# Altium schematic symbol library inductores.SchLib: 2 symbols
Pins are listed as number, name and electrical type; pins without a type are passive.

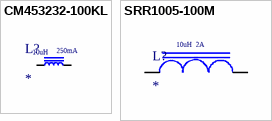
[diagram p0: symbols CM453232-100KL to SRR1005-100M]

## CM453232-100KL
designator L?  Current Rating: 250mA  Inductance: 10uH
Ind General Purpose Chip Wirewound 10uH 10% 2.52MHz 50Q-Factor Ferrite 250mA 1812 T/R; Manufacturer 1: Bourns; Manufacturer Part Number 1: CM453232-100KL; DC Resistance (DCR): 1.6R; Q Factor: 50; Self Resonant Frequency: 20MHz; Shielding: Unshielded; Current: 160mA; Supplier 1: Digi-Key; Stock 1: 1374; Pricing 1: 1=0,43000, 10=0,38100, 25=0,33320, 50=0,28540, 100=0,26170, 250=0,23788 (USD); RoHS: Yes; Mount: Surface Mount; Case/Package: 1812; Number of Pins: 2; Core Material: Ferrite; Case Code (Metric): 4532; Case Code (Imperial): 1812; Contact Plating: Tin; Min Operating Temperature: -40°C; Max Operating Temperature: 100°C; Tolerance: 10%; Max DC Current: 250mA; Packaging: Tape and Reel; Inductance Tolerance: 10%; Package Quantity: 500; Resistor Type: Wirewound; Test Frequency: 2.52MHz; Termination: SMD/SMT; DC Current: 250mA; Series Resistance: 1.6R; Series: CM453232; Length: 4.8mm; Width: 0.126inch; Height: 3mm; Height - Seated (Max): 0.134inch; Depth: 3.4mm; Radiation Hardening: No; REACH SVHC: No SVHC; Military Standard: Not; RoHS Compliant: Yes; ComponentLink1URL: https://datasheet.ciiva.com/27049/774461-27049974.pdf?src-supplier=Jameco; ComponentLink1Description: https://datasheet.ciiva.com/27049/774461-27049974.pdf?src-supplier=Jameco; ComponentLink2URL: https://datasheet.ciiva.com/11799/0900766b81218b74-11799714.pdf?src-supplier=RSComponents; ComponentLink2Description: https://datasheet.ciiva.com/11799/0900766b81218b74-11799714.pdf?src-supplier=RSComponents; ComponentLink3URL: https://datasheet.ciiva.com/29348/447189-da-01-en-induktivitaet-cm453232-100kl-10uh-250ma-29348045.pdf?src-supplier=Conrad; ComponentLink3Description: https://datasheet.ciiva.com/29348/447189-da-01-en-induktivitaet-cm453232-100kl-10uh-250ma-29348045.pdf?src-supplier=Conrad; ComponentLink4URL: https://datasheet.ciiva.com/3081/cm-3081727.pdf?src-supplier=Avnet; ComponentLink4Description: https://datasheet.ciiva.com/3081/cm-3081727.pdf?src-supplier=Avnet; ComponentLink5URL: https://datasheet.ciiva.com/6689/cm-6689143.pdf?src-supplier=Digi-Key; ComponentLink5Description: https://datasheet.ciiva.com/6689/cm-6689143.pdf?src-supplier=Digi-Key; ComponentLink6URL: https://datasheet.ciiva.com/6689/cm-6689144.pdf?src-supplier=Digi-Key; ComponentLink6Description: https://datasheet.ciiva.com/6689/cm-6689144.pdf?src-supplier=Digi-Key; ComponentLink7URL: https://datasheet.ciiva.com/6689/cm-6689145.pdf?src-supplier=Digi-Key; ComponentLink7Description: https://datasheet.ciiva.com/6689/cm-6689145.pdf?src-supplier=Digi-Key; ComponentLink8URL: https://datasheet.ciiva.com/4978/cm-4978555.pdf?src-supplier=Mouser; ComponentLink8Description: https://datasheet.ciiva.com/4978/cm-4978555.pdf?src-supplier=Mouser; ComponentLink9URL: https://datasheet.ciiva.com/25903/cm-25903528.pdf?src-supplier=Avnet+Europe; ComponentLink9Description: https://datasheet.ciiva.com/25903/cm-25903528.pdf?src-supplier=Avnet+Europe; ComponentLink10URL: https://datasheet.ciiva.com/14124/wfcm-dat-e-14124666.pdf?src-supplier=Distrelec; ComponentLink10Description: https://datasheet.ciiva.com/14124/wfcm-dat-e-14124666.pdf?src-supplier=Distrelec; ComponentLink11URL: https://datasheet.ciiva.com/15225/getdatasheetpartid-128072-15225413.pdf?src-supplier=Verical; ComponentLink11Description: https://datasheet.ciiva.com/15225/getdatasheetpartid-128072-15225413.pdf?src-supplier=Verical; ComponentLink12URL: https://datasheet.ciiva.com/7839/1481743-7839005.pdf?src-supplier=Element14; ComponentLink12Description: https://datasheet.ciiva.com/7839/1481743-7839005.pdf?src-supplier=Element14; ComponentLink13URL: https://datasheet.ciiva.com/7839/1481743-7839006.pdf?src-supplier=Element14; ComponentLink13Description: https://datasheet.ciiva.com/7839/1481743-7839006.pdf?src-supplier=Element14; Supplier Part Number 1: CM453232-100KLCT-ND
pins: 1, 2

## SRR1005-100M
designator L?  Inductance: 10uH  Current Rating: 2A
BOURNS         SRR1005-100M             Surface Mount Power Inductor, 10 H, 2 A, 3 A, Shielded, 0.065 ohm; Core Material: Ferrite; Material: Steel; Tolerance: 20%; DC Resistance (DCR): 65mR; Test Frequency: 1kHz; Self Resonant Frequency: 30MHz; Q Factor: 48; Saturation Current: 3A; Supplier 1: Digi-Key; Manufacturer 1: Bourns; Manufacturer Part Number 1: SRR1005-100M; Stock 1: 5603; Pricing 1: 1=1,18000, 10=1,09900, 25=1,01440, 50=0,84540, 100=0,79460, 250=0,71008 (USD); RoHS: Yes; Mount: Surface Mount; Case/Package: 1005; Number of Pins: 2; Weight: 0.045856oz; Min Operating Temperature: -40°C; Max Operating Temperature: 125°C; Package Quantity: 600; Shielding: Shielded; Max DC Current: 2A; Termination: SMD/SMT; Series: SRR1005; Packaging: Tape and Reel; DC Current: 2A; Resistor Type: Wirewound; Inductance Tolerance: 20%; RMS Current (Irms): 2A; Resistance: 65MR; Frequency: 30MHz; Sample Rate (Hz): 1kHz; Inductor Type: POWER; Length: 12.7mm; Width: 10mm; Height: 5.2mm; Depth: 10.2mm; Height - Seated (Max): 0.205inch; Radiation Hardening: No; Military Standard: Not; RoHS Compliant: Yes; REACH SVHC: No SVHC; ComponentLink1URL: https://datasheet.ciiva.com/11802/0900766b80f2b72b-11802905.pdf?src-supplier=RSComponents; ComponentLink1Description: https://datasheet.ciiva.com/11802/0900766b80f2b72b-11802905.pdf?src-supplier=RSComponents; ComponentLink2URL: https://datasheet.ciiva.com/1049/srr1005-1049830.pdf?src-supplier=Digi-Key; ComponentLink2Description: https://datasheet.ciiva.com/1049/srr1005-1049830.pdf?src-supplier=Digi-Key; ComponentLink3URL: https://datasheet.ciiva.com/1049/srr1005-1049831.pdf?src-supplier=Digi-Key; ComponentLink3Description: https://datasheet.ciiva.com/1049/srr1005-1049831.pdf?src-supplier=Digi-Key; ComponentLink4URL: https://datasheet.ciiva.com/8517/srr1005-8517241.pdf?src-supplier=Avnet; ComponentLink4Description: https://datasheet.ciiva.com/8517/srr1005-8517241.pdf?src-supplier=Avnet; ComponentLink5URL: https://datasheet.ciiva.com/8517/srr1005-8517245.pdf?src-supplier=Avnet; ComponentLink5Description: https://datasheet.ciiva.com/8517/srr1005-8517245.pdf?src-supplier=Avnet; ComponentLink6URL: https://datasheet.ciiva.com/7849/1695393-7849758.pdf?src-supplier=Element14; ComponentLink6Description: https://datasheet.ciiva.com/7849/1695393-7849758.pdf?src-supplier=Element14; ComponentLink7URL: https://datasheet.ciiva.com/7308/1695393-7308022.pdf?src-supplier=Newark; ComponentLink7Description: https://datasheet.ciiva.com/7308/1695393-7308022.pdf?src-supplier=Newark; ComponentLink8URL: https://datasheet.ciiva.com/17284/srr1005-17284901.pdf?src-supplier=Avnet+Europe; ComponentLink8Description: https://datasheet.ciiva.com/17284/srr1005-17284901.pdf?src-supplier=Avnet+Europe; Supplier Part Number 1: SRR1005-100MCT-ND
pins: 1, 2